# Altium schematic symbol library PCA9617A.SchLib: 1 symbol
Pins are listed as number, name and electrical type; pins without a type are passive.

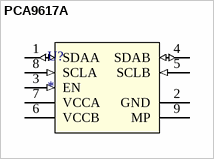
[diagram p0: symbol PCA9617A]

## PCA9617A
designator U?
pins: 1 SDAA (io), 2 GND (power), 3 EN (in), 4 SDAB (io), 5 SCLB (in), 6 VCCB (power), 7 VCCA (power), 8 SCLA (in), 9 MP